# Altium footprint library HDRV30W52P200_2X15_3030X400X1850P.PcbLib: 1 footprints
Each footprint in its own frame and in the unit in brackets; x right, y up, seen from the top. Pads: shape width x height; smd on the part's side, far side on the other; paste and mask are expansions set on the pad; w line width, h text height; cw(c..) or ccw(c..) is an arc to the next point about the centre after c.
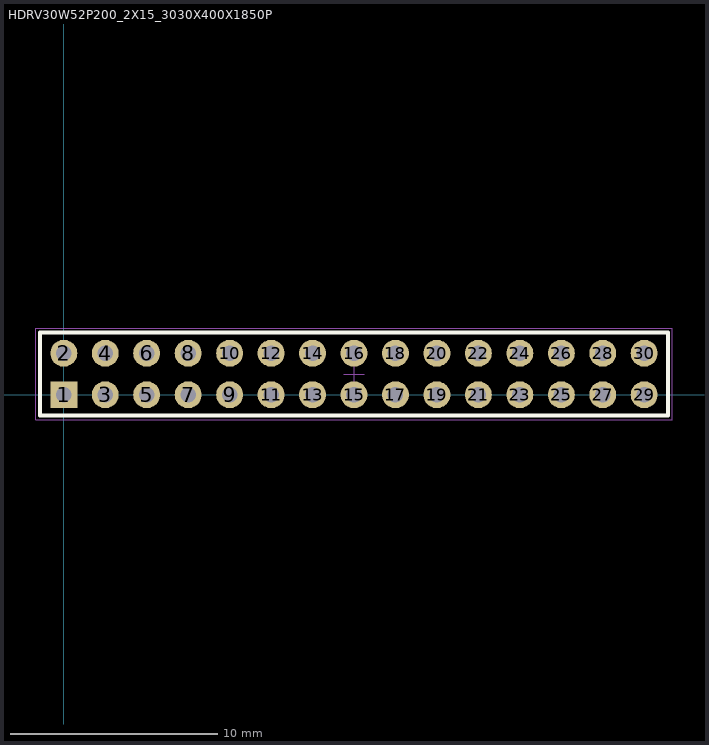
[diagram p0: the footprint, top view; thin cyan lines are the x and y axes]

## HDRV30W52P200_2X15_3030X400X1850P [mm]
pads (30):
  rect 1.3x1.3 hole 0.75: 1(0,0)
  round 1.3 hole 0.75: 2(0,2) 3(2,0) 4(2,2) 5(4,0) 6(4,2) 7(6,0) 8(6,2) 9(8,0) 10(8,2) 11(10,0) 12(10,2) 13(12,0) 14(12,2) 15(14,0) 16(14,2) 17(16,0) 18(16,2) 19(18,0) 20(18,2) 21(20,0) 22(20,2) 23(22,0) 24(22,2) 25(24,0) 26(24,2) 27(26,0) 28(26,2) 29(28,0) 30(28,2)
Top Overlay:
  lines w0.2: -1.15,-1 -1.15,3 29.15,3 29.15,-1 -1.15,-1
Mechanical 13:
  lines w0.1: -1.15,-1 29.15,-1 29.15,3 -1.15,3 -1.15,-1
Mechanical 15:
  lines w0.05: 13.5,1 14.5,1 ; 14,0.5 14,1.5 ; -1.35,-1.2 -1.35,3.2 29.35,3.2 29.35,-1.2 -1.35,-1.2